# EAGLE library part STEVAL-STLCS01V1 (library STEVAL-STLCS01V1)
Evaluation kit based on the STM32L476JGY6TR, LSM303AGRTR, LSM6DSMTR, BlueNRG-MSCSP, LPS22HBTR, MP34DT04 and BALF-NRG Check prices <https://pricing.snapeda.com/parts/STEVAL-STLCS01V1/STMicroelectronics/view-part?ref=eda>
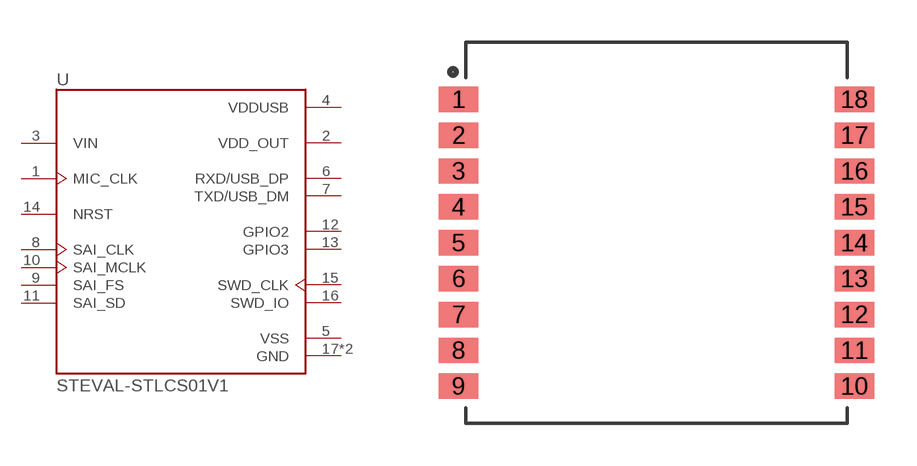
[diagram p0: symbol with the pads of XDCR_STEVAL-STLCS01V1; footprint XDCR_STEVAL-STLCS01V1]

Designator prefix U

## STEVAL-STLCS01V1 (Availability: Bad; Description: BlueNRG-MS, LPS22HB, LSM6DSM, LSM303AGR, MP34DT04, STM32L4 SensorTile Accelerometer, Gyroscope, Humidity, Magnetometer, Pressure, Temperature Sensor Evaluation Board; MF: STMicroelectronics; MP: STEVAL-STLCS01V1; Package: None; Price: None; Purchase-URL: https://pricing.snapeda.com/search/part/STEVAL-STLCS01V1/?ref=eda)  [XDCR_STEVAL-STLCS01V1]
1  MIC_CLK  in
2  VDD_OUT  out
3  VIN  in
4  VDDUSB  pwr
5  VSS  pwr
6  RXD/USB_DP
7  TXD/USB_DM
8  SAI_CLK
9  SAI_FS
10  SAI_MCLK
11  SAI_SD
12  GPIO2
13  GPIO3
14  NRST  in
15  SWD_CLK
16  SWD_IO
17  GND  pwr
18  GND  pwr

## Footprint XDCR_STEVAL-STLCS01V1 (pad centres in mm)
smd 1.4 x 0.9: 1 -7,5.08; 2 -7,3.81; 3 -7,2.54; 4 -7,1.27; 5 -7,0; 6 -7,-1.27; 7 -7,-2.54; 8 -7,-3.81; 9 -7,-5.08; 10 7,-5.08; 11 7,-3.81; 12 7,-2.54; 13 7,-1.27; 14 7,0; 15 7,1.27; 16 7,2.54; 17 7,3.81; 18 7,5.08